# Altium footprint library PCB1.PcbLib: 6 footprints
Each footprint in its own frame and in the unit in brackets; x right, y up, seen from the top. Pads: shape width x height; smd on the part's side, far side on the other; paste and mask are expansions set on the pad; w line width, h text height; cw(c..) or ccw(c..) is an arc to the next point about the centre after c.
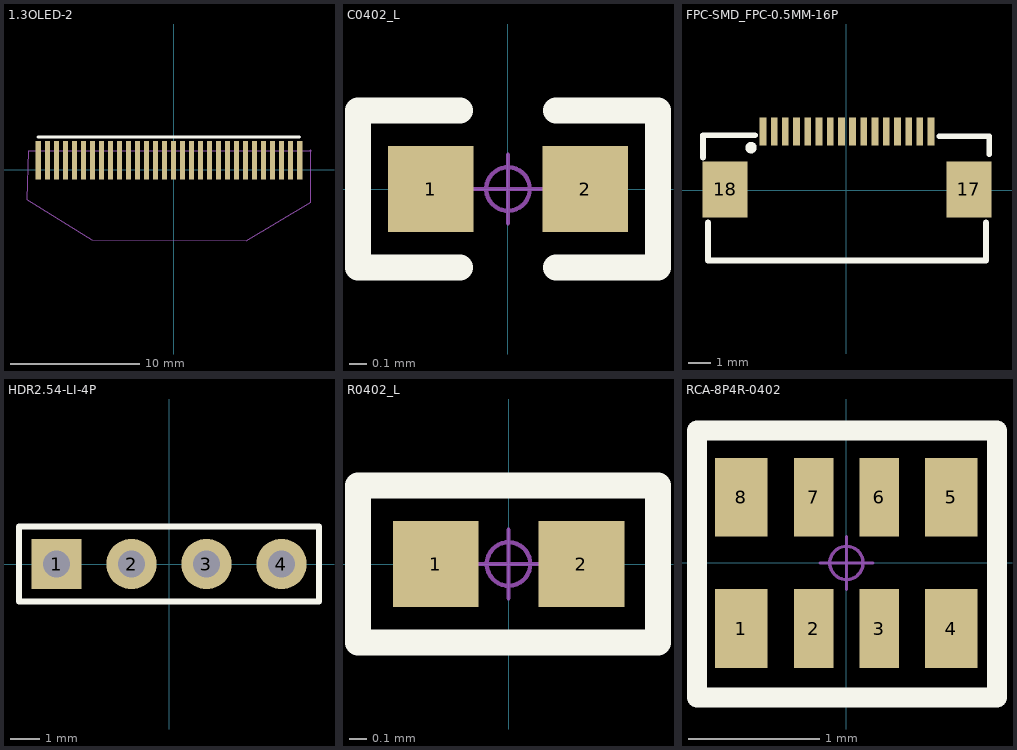
[diagram p0: the footprints below, top view; thin cyan lines are the x and y axes]

## 1.3OLED-2 [mm]
pads (30):
  rect 0.4x3 smd paste+0 mask+0.051: 1(-10.531,0.762) 2(-9.831,0.763) 3(-9.131,0.762) 4(-8.431,0.762) 5(-7.731,0.762) 6(-7.031,0.762) 7(-6.331,0.762) 8(-5.631,0.762) 9(-4.931,0.762) 10(-4.231,0.762) 11(-3.531,0.762) 12(-2.831,0.762) 13(-2.131,0.762) 14(-1.431,0.762) 15(-0.731,0.762) 16(-0.031,0.762) 17(0.669,0.762) 18(1.369,0.762) 19(2.069,0.763) 20(2.769,0.762) 21(3.469,0.761) 22(4.169,0.762) 23(4.869,0.762) 24(5.569,0.762) 25(6.269,0.763) 26(6.969,0.762) 27(7.669,0.763) 28(8.369,0.762) 29(9.069,0.762) 30(9.769,0.762)
Top Overlay:
  lines w0.254: -10.539,2.549 9.761,2.549
Mechanical 15:
  drawing of 37 lines, arcs and shapes, not listed

## C0402_L [mm]
pads (2):
  rect 0.5x0.5 smd: 1(-0.45,0) 2(0.45,0)
Top Overlay:
  lines w0.152: -0.279,-0.457 -0.875,-0.457 -0.875,0.457 -0.279,0.457 ; 0.279,-0.457 0.875,-0.457 0.875,0.457 0.279,0.457
Mechanical 15:
  circle w0.025: c0,0 r0.127
  lines w0.025: -0.2,0 0.2,0 ; 0,-0.2 0,0.2
3D body "C0402-B-2S.stp": height 0.5, standoff 0, extent -0.5,-0.25 0.5,0.25

## FPC-SMD_FPC-0.5MM-16P [mm]
pads (18):
  rect 0.3x1.25 smd paste+0 mask+0.05: 1(-3.71,2.624) 2(-3.21,2.624) 3(-2.71,2.624) 4(-2.21,2.624) 5(-1.71,2.624) 6(-1.21,2.624) 7(-0.71,2.624) 8(-0.21,2.624) 9(0.29,2.624) 10(0.79,2.624) 11(1.29,2.624) 12(1.79,2.624) 13(2.29,2.624) 14(2.79,2.624) 15(3.29,2.624) 16(3.79,2.624)
  rect 2x2.5 smd paste+0 mask+0.05: 17(5.48,0.049) 18(-5.4,0.049)
Top Overlay:
  circle w0.254: c-4.24,1.907 r0.127
  lines w0.254: -6.38,1.467 -6.38,2.467 -4.06,2.467 ; -6.16,-1.432 -6.16,-3.122 6.24,-3.122 6.24,-1.432 ; 4.15,2.417 6.38,2.417 6.38,1.617

## HDR2.54-LI-4P [mm]
pads (4):
  rect 1.7x1.7 hole 0.9: 1(-3.81,0)
  round 1.7 hole 0.9: 2(-1.27,0) 3(1.27,0) 4(3.81,0)
Top Overlay:
  lines w0.2: -5.08,-1.27 -5.08,1.27 5.08,1.27 5.08,-1.27 -5.08,-1.27
3D body "HDR2.54-1P.STEP": height 2.54, standoff -8.96, extent 2.54,-1.27 5.08,1.27
3D body "HDR2.54-1P.STEP": height 2.54, standoff -8.96, extent 0,-1.27 2.54,1.27
3D body "HDR2.54-1P.STEP": height 2.54, standoff -8.96, extent -2.54,-1.27 0,1.27
3D body "HDR2.54-1P.STEP": height 2.54, standoff -8.96, extent -5.08,-1.27 -2.54,1.27

## R0402_L [mm]
pads (2):
  rect 0.5x0.5 smd: 1(-0.425,0) 2(0.425,0)
Top Overlay:
  lines w0.152: -0.878,-0.457 0.872,-0.457 0.872,0.457 -0.878,0.457 -0.878,-0.457
Mechanical 15:
  circle w0.025: c0,0 r0.127
  lines w0.025: -0.2,0 0.2,0 ; 0,-0.2 0,0.2
3D body "R0402.STEP": height 0.3, standoff 0, extent -0.5,-0.25 0.5,0.25

## RCA-8P4R-0402 [mm]
pads (8):
  rect 0.4x0.6 smd: 1(-0.8,-0.5) 4(0.8,-0.5) 5(0.8,0.5) 8(-0.8,0.5)
  rect 0.3x0.6 smd: 2(-0.25,-0.5) 3(0.25,-0.5) 6(0.25,0.5) 7(-0.25,0.5)
Top Overlay:
  lines w0.152: -1.139,-1.024 1.147,-1.024 1.147,1.008 -1.139,1.008 -1.139,-1.024
Mechanical 15:
  circle w0.025: c0,0 r0.127
  lines w0.025: -0.2,0 0.2,0 ; 0,-0.2 0,0.2
3D body "8P4R-0402-22.stp": height 0.45, standoff 0, extent -1,-0.5 1,0.5